# EAGLE library part 687114144821 (library Wuerth_Elektronik_eiCan_03_ZIF_Connectors_Flat_Flexible_Cable)
WR-FPC 0.5mm SMT ZIF Horizontal Bottom Contact Low Profil 1.2mm Height, 14 Pins
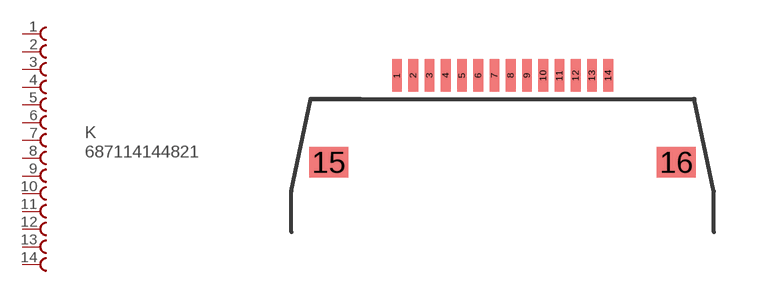
[diagram p6: symbol with the pads of 687114144821; footprint 687114144821]

Designator prefix K

## 687114144821  [687114144821]
1  1  pas
2  2  pas
3  3  pas
4  4  pas
5  5  pas
6  6  pas
7  7  pas
8  8  pas
9  9  pas
10  10  pas
11  11  pas
12  12  pas
13  13  pas
14  14  pas

## Footprint 687114144821 (pad centres in mm)
WR-FPC 0.5mm SMT ZIF Horizontal Bottom Contact Low Profil 1.2mm Height, 14 Pins
smd 0.3 x 1: 1 -3.25,4.825; 2 -2.75,4.825; 3 -2.25,4.825; 4 -1.75,4.825; 5 -1.25,4.825; 6 -0.75,4.825; 7 -0.25,4.825; 8 0.25,4.825; 9 0.75,4.825; 10 1.25,4.825; 11 1.75,4.825; 12 2.25,4.825; 13 2.75,4.825; 14 3.25,4.825
smd 1.2 x 0.95: 15 -5.35,2.15; 16 5.35,2.15